# Altium schematic symbol library WR-PHD_Socket Header_2.54mm.SchLib: 187 symbols (part 3 of 4)
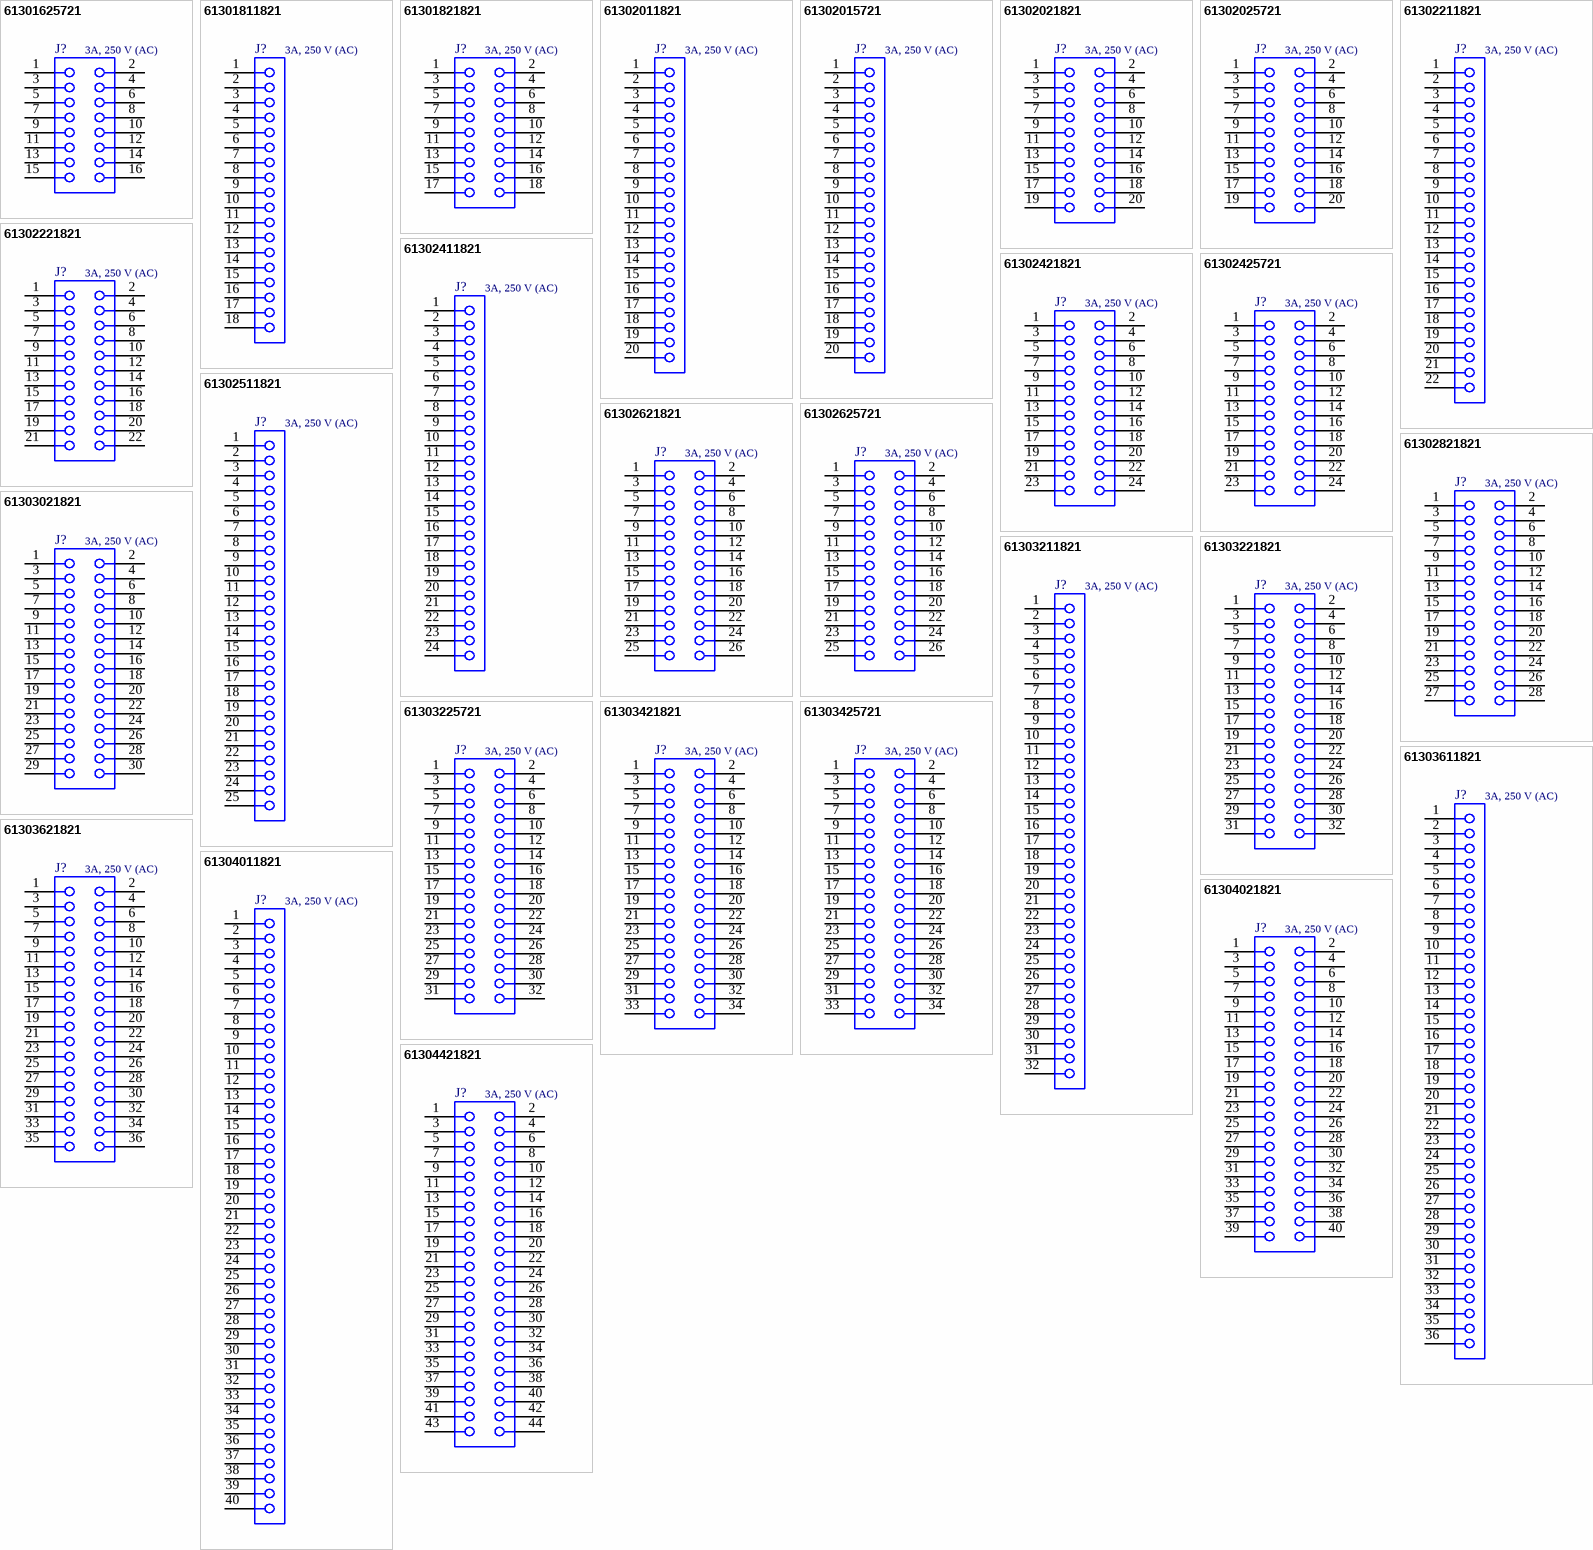
[diagram p7: symbols 61301625721 to 61304421821]

## 61303211821
designator J?, comment 3A, 250 V (AC)
WR-PHD Socket Header, THT, pitch 2.54mm, Single Row, Vertical, 32p; Manufacturer Part Number: 61303211821; Manufacturer: Wurth Elektronik; Pin Number: 32; Working Voltage: 250VAC; Withstanding Voltage: 500VAC; Contact Resistance: 20mOhm; ComponentLink1Description: Datasheet; ComponentLink1URL: https://www.we-online.com/catalog/datasheet/61303211821.pdf; Pitch: 2.54mm; Packaging: Tray; Gender: Socket Header; Rated Current: 3A; Row Number: Single; Orientation: Vertical; Supplier 1 URL: https://www.mouser.vn/ProductDetail/Wurth-Elektronik/61303211821?qs=ZtY9WdtwX55M%2FH%2FSrHZ9xA%3D%3D; Supplier 2 URL: N/A; Supplier 3 URL: N/A; Mount: THT; Operating Temperature Max: + 85 C; Operating Temperature Min: - 25 C; Supplier 1: Mouser; Supplier 1 Part Number: 710-61303211821; Supplier 2: Digi-Key; Supplier 2 Part Number: N/A; Supplier 3: thegioiic; Supplier 3 Part Number: N/A; Value: 3A, 250 V (AC); LCSC Part #: N/A
footprint 61303211821
pins: 1, 2, 3, 4, 5, 6, 7, 8, 9, 10, 11, 12, 13, 14, 15, 16, 17, 18, 19, 20, 21, 22, 23, 24, 25, 26, 27, 28, 29, 30, 31, 32

## 61303221821
designator J?, comment 3A, 250 V (AC)
WR-PHD Socket Header, THT, pitch 2.54mm, Dual Row, Vertical, 32p; Manufacturer Part Number: 61303221821; Manufacturer: Wurth Elektronik; Pin Number: 32; Working Voltage: 250VAC; Withstanding Voltage: 500VAC; Contact Resistance: 20mOhm; ComponentLink1Description: Datasheet; ComponentLink1URL: https://www.we-online.com/catalog/datasheet/61303221821.pdf; Pitch: 2.54mm; Packaging: Tray; Gender: Socket Header; Rated Current: 3A; Row Number: Dual; Orientation: Vertical; Supplier 1 URL: https://www.mouser.vn/ProductDetail/Wurth-Elektronik/61303221821?qs=iLbezkQI%252BsiIokXjqKgYlA%3D%3D; Supplier 2 URL: N/A; Supplier 3 URL: N/A; Mount: THT; Operating Temperature Max: + 85 C; Operating Temperature Min: - 25 C; Supplier 1: Mouser; Supplier 1 Part Number: 710-61303221821; Supplier 2: Digi-Key; Supplier 2 Part Number: N/A; Supplier 3: thegioiic; Supplier 3 Part Number: N/A; Value: 3A, 250 V (AC); LCSC Part #: N/A
footprint 61303221821
pins: 1, 2, 3, 4, 5, 6, 7, 8, 9, 10, 11, 12, 13, 14, 15, 16, 17, 18, 19, 20, 21, 22, 23, 24, 25, 26, 27, 28, 29, 30, 31, 32

## 61303225721
designator J?, comment 3A, 250 V (AC)
WR-PHD Socket Header, THT, pitch 2.54mm, Dual Row, Vertical, 32p; Manufacturer Part Number: 61303225721; Manufacturer: Wurth Elektronik; Pin Number: 32; Working Voltage: 250VAC; Withstanding Voltage: 500VAC; Contact Resistance: 20mOhm; ComponentLink1Description: Datasheet; ComponentLink1URL: https://www.we-online.com/catalog/datasheet/61303225721.pdf; Pitch: 2.54mm; Packaging: Tube; Gender: Socket Header; Rated Current: 3A; Row Number: Dual; Orientation: Vertical; Supplier 1 URL: N/A; Supplier 2 URL: N/A; Supplier 3 URL: N/A; Mount: THT; Operating Temperature Max: + 85 C; Operating Temperature Min: - 25 C; Supplier 1: Mouser; Supplier 1 Part Number: N/A; Supplier 2: Digi-Key; Supplier 2 Part Number: N/A; Supplier 3: thegioiic; Supplier 3 Part Number: N/A; Value: 3A, 250 V (AC); LCSC Part #: N/A
footprint 61303225721
pins: 1, 2, 3, 4, 5, 6, 7, 8, 9, 10, 11, 12, 13, 14, 15, 16, 17, 18, 19, 20, 21, 22, 23, 24, 25, 26, 27, 28, 29, 30, 31, 32

## 61303421821
designator J?, comment 3A, 250 V (AC)
WR-PHD Socket Header, THT, pitch 2.54mm, Dual Row, Vertical, 34p; Manufacturer Part Number: 61303421821; Manufacturer: Wurth Elektronik; Pin Number: 34; Working Voltage: 250VAC; Withstanding Voltage: 500VAC; Contact Resistance: 20mOhm; ComponentLink1Description: Datasheet; ComponentLink1URL: https://www.we-online.com/catalog/datasheet/61303421821.pdf; Pitch: 2.54mm; Packaging: Tray; Gender: Socket Header; Rated Current: 3A; Row Number: Dual; Orientation: Vertical; Supplier 1 URL: N/A; Supplier 2 URL: N/A; Supplier 3 URL: https://www.thegioiic.com/hang-rao-cai-doi-2-54mm-34-chan-2-hang-cao-11-8mm-xuyen-lo; Mount: THT; Operating Temperature Max: + 85 C; Operating Temperature Min: - 25 C; Supplier 1: Mouser; Supplier 1 Part Number: N/A; Supplier 2: Digi-Key; Supplier 2 Part Number: N/A; Supplier 3: thegioiic; Supplier 3 Part Number: N/A; Value: 3A, 250 V (AC); LCSC Part #: N/A
footprint 61303421821
pins: 1, 2, 3, 4, 5, 6, 7, 8, 9, 10, 11, 12, 13, 14, 15, 16, 17, 18, 19, 20, 21, 22, 23, 24, 25, 26, 27, 28, 29, 30, 31, 32, 33, 34

## 61303425721
designator J?, comment 3A, 250 V (AC)
WR-PHD Socket Header, THT, pitch 2.54mm, Dual Row, Vertical, 34p; Manufacturer Part Number: 61303425721; Manufacturer: Wurth Elektronik; Pin Number: 34; Working Voltage: 250VAC; Withstanding Voltage: 500VAC; Contact Resistance: 20mOhm; ComponentLink1Description: Datasheet; ComponentLink1URL: https://www.we-online.com/catalog/datasheet/61303425721.pdf; Pitch: 2.54mm; Packaging: Tube; Gender: Socket Header; Rated Current: 3A; Row Number: Dual; Orientation: Vertical; Supplier 1 URL: N/A; Supplier 2 URL: N/A; Supplier 3 URL: N/A; Mount: THT; Operating Temperature Max: + 85 C; Operating Temperature Min: - 25 C; Supplier 1: Mouser; Supplier 1 Part Number: N/A; Supplier 2: Digi-Key; Supplier 2 Part Number: N/A; Supplier 3: thegioiic; Supplier 3 Part Number: N/A; Value: 3A, 250 V (AC); LCSC Part #: N/A
footprint 61303425721
pins: 1, 2, 3, 4, 5, 6, 7, 8, 9, 10, 11, 12, 13, 14, 15, 16, 17, 18, 19, 20, 21, 22, 23, 24, 25, 26, 27, 28, 29, 30, 31, 32, 33, 34

## 61303611821
designator J?, comment 3A, 250 V (AC)
WR-PHD Socket Header, THT, pitch 2.54mm, Single Row, Vertical, 36p; Manufacturer Part Number: 61303611821; Manufacturer: Wurth Elektronik; Pin Number: 36; Working Voltage: 250VAC; Withstanding Voltage: 500VAC; Contact Resistance: 20mOhm; ComponentLink1Description: Datasheet; ComponentLink1URL: https://www.we-online.com/catalog/datasheet/61303611821.pdf; Pitch: 2.54mm; Packaging: Tray; Gender: Socket Header; Rated Current: 3A; Row Number: Single; Orientation: Vertical; Supplier 1 URL: N/A; Supplier 2 URL: N/A; Supplier 3 URL: N/A; Mount: THT; Operating Temperature Max: + 85 C; Operating Temperature Min: - 25 C; Supplier 1: Mouser; Supplier 1 Part Number: N/A; Supplier 2: Digi-Key; Supplier 2 Part Number: N/A; Supplier 3: thegioiic; Supplier 3 Part Number: N/A; Value: 3A, 250 V (AC); LCSC Part #: N/A
footprint 61303611821
pins: 1, 2, 3, 4, 5, 6, 7, 8, 9, 10, 11, 12, 13, 14, 15, 16, 17, 18, 19, 20, 21, 22, 23, 24, 25, 26, 27, 28, 29, 30, 31, 32, 33, 34, 35, 36

## 61303621821
designator J?, comment 3A, 250 V (AC)
WR-PHD Socket Header, THT, pitch 2.54mm, Dual Row, Vertical, 36p; Manufacturer Part Number: 61303621821; Manufacturer: Wurth Elektronik; Pin Number: 36; Working Voltage: 250VAC; Withstanding Voltage: 500VAC; Contact Resistance: 20mOhm; ComponentLink1Description: Datasheet; ComponentLink1URL: https://www.we-online.com/catalog/datasheet/61303621821.pdf; Pitch: 2.54mm; Packaging: Tray; Gender: Socket Header; Rated Current: 3A; Row Number: Dual; Orientation: Vertical; Supplier 1 URL: N/A; Supplier 2 URL: N/A; Supplier 3 URL: https://www.thegioiic.com/hang-rao-cai-doi-2-54mm-36-chan-2-hang-cao-11-8mm-xuyen-lo; Mount: THT; Operating Temperature Max: + 85 C; Operating Temperature Min: - 25 C; Supplier 1: Mouser; Supplier 1 Part Number: N/A; Supplier 2: Digi-Key; Supplier 2 Part Number: N/A; Supplier 3: thegioiic; Supplier 3 Part Number: N/A; Value: 3A, 250 V (AC); LCSC Part #: N/A
footprint 61303621821
pins: 1, 2, 3, 4, 5, 6, 7, 8, 9, 10, 11, 12, 13, 14, 15, 16, 17, 18, 19, 20, 21, 22, 23, 24, 25, 26, 27, 28, 29, 30, 31, 32, 33, 34, 35, 36

## 61304011821
designator J?, comment 3A, 250 V (AC)
WR-PHD Socket Header, THT, pitch 2.54mm, Single Row, Vertical, 40p; Manufacturer Part Number: 61304011821; Manufacturer: Wurth Elektronik; Pin Number: 40; Working Voltage: 250VAC; Withstanding Voltage: 500VAC; Contact Resistance: 20mOhm; ComponentLink1Description: Datasheet; ComponentLink1URL: https://www.we-online.com/catalog/datasheet/61304011821.pdf; Pitch: 2.54mm; Packaging: Tray; Gender: Socket Header; Rated Current: 3A; Row Number: Single; Orientation: Vertical; Supplier 1 URL: https://www.mouser.vn/ProductDetail/Wurth-Elektronik/61304011821?qs=ulEaXIWI0c%2FUKLXoUP0iyA%3D%3D; Supplier 2 URL: N/A; Supplier 3 URL: N/A; Mount: THT; Operating Temperature Max: + 85 C; Operating Temperature Min: - 25 C; Supplier 1: Mouser; Supplier 1 Part Number: 710-61304011821; Supplier 2: Digi-Key; Supplier 2 Part Number: N/A; Supplier 3: thegioiic; Supplier 3 Part Number: N/A; Value: 3A, 250 V (AC); LCSC Part #: N/A
footprint 61304011821
pins: 1, 2, 3, 4, 5, 6, 7, 8, 9, 10, 11, 12, 13, 14, 15, 16, 17, 18, 19, 20, 21, 22, 23, 24, 25, 26, 27, 28, 29, 30, 31, 32, 33, 34, 35, 36, 37, 38, 39, 40

## 61304021821
designator J?, comment 3A, 250 V (AC)
WR-PHD Socket Header, THT, pitch 2.54mm, Dual Row, Vertical, 40p; Manufacturer Part Number: 61304021821; Manufacturer: Wurth Elektronik; Pin Number: 40; Working Voltage: 250VAC; Withstanding Voltage: 500VAC; Contact Resistance: 20mOhm; ComponentLink1Description: Datasheet; ComponentLink1URL: https://www.we-online.com/catalog/datasheet/61304021821.pdf; Pitch: 2.54mm; Packaging: Tray; Gender: Socket Header; Rated Current: 3A; Row Number: Dual; Orientation: Vertical; Supplier 1 URL: https://www.mouser.vn/ProductDetail/Wurth-Elektronik/61304021821?qs=bZr6mbWTK5mzEvTTGhcEyQ%3D%3D; Supplier 2 URL: N/A; Supplier 3 URL: N/A; Mount: THT; Operating Temperature Max: + 85 C; Operating Temperature Min: - 25 C; Supplier 1: Mouser; Supplier 1 Part Number: 710-61304021821; Supplier 2: Digi-Key; Supplier 2 Part Number: N/A; Supplier 3: thegioiic; Supplier 3 Part Number: N/A; Value: 3A, 250 V (AC); LCSC Part #: N/A
footprint 61304021821
pins: 1, 2, 3, 4, 5, 6, 7, 8, 9, 10, 11, 12, 13, 14, 15, 16, 17, 18, 19, 20, 21, 22, 23, 24, 25, 26, 27, 28, 29, 30, 31, 32, 33, 34, 35, 36, 37, 38, 39, 40

## 61304421821
designator J?, comment 3A, 250 V (AC)
WR-PHD Socket Header, THT, pitch 2.54mm, Dual Row, Vertical, 44p; Manufacturer Part Number: 61304421821; Manufacturer: Wurth Elektronik; Pin Number: 44; Working Voltage: 250VAC; Withstanding Voltage: 500VAC; Contact Resistance: 20mOhm; ComponentLink1Description: Datasheet; ComponentLink1URL: https://www.we-online.com/catalog/datasheet/61304421821.pdf; Pitch: 2.54mm; Packaging: Tray; Gender: Socket Header; Rated Current: 3A; Row Number: Dual; Orientation: Vertical; Supplier 1 URL: N/A; Supplier 2 URL: N/A; Supplier 3 URL: N/A; Mount: THT; Operating Temperature Max: + 85 C; Operating Temperature Min: - 25 C; Supplier 1: Mouser; Supplier 1 Part Number: N/A; Supplier 2: Digi-Key; Supplier 2 Part Number: N/A; Supplier 3: thegioiic; Supplier 3 Part Number: N/A; Value: 3A, 250 V (AC); LCSC Part #: N/A
footprint 61304421821
pins: 1, 2, 3, 4, 5, 6, 7, 8, 9, 10, 11, 12, 13, 14, 15, 16, 17, 18, 19, 20, 21, 22, 23, 24, 25, 26, 27, 28, 29, 30, 31, 32, 33, 34, 35, 36, 37, 38, 39, 40, 41, 42, 43, 44

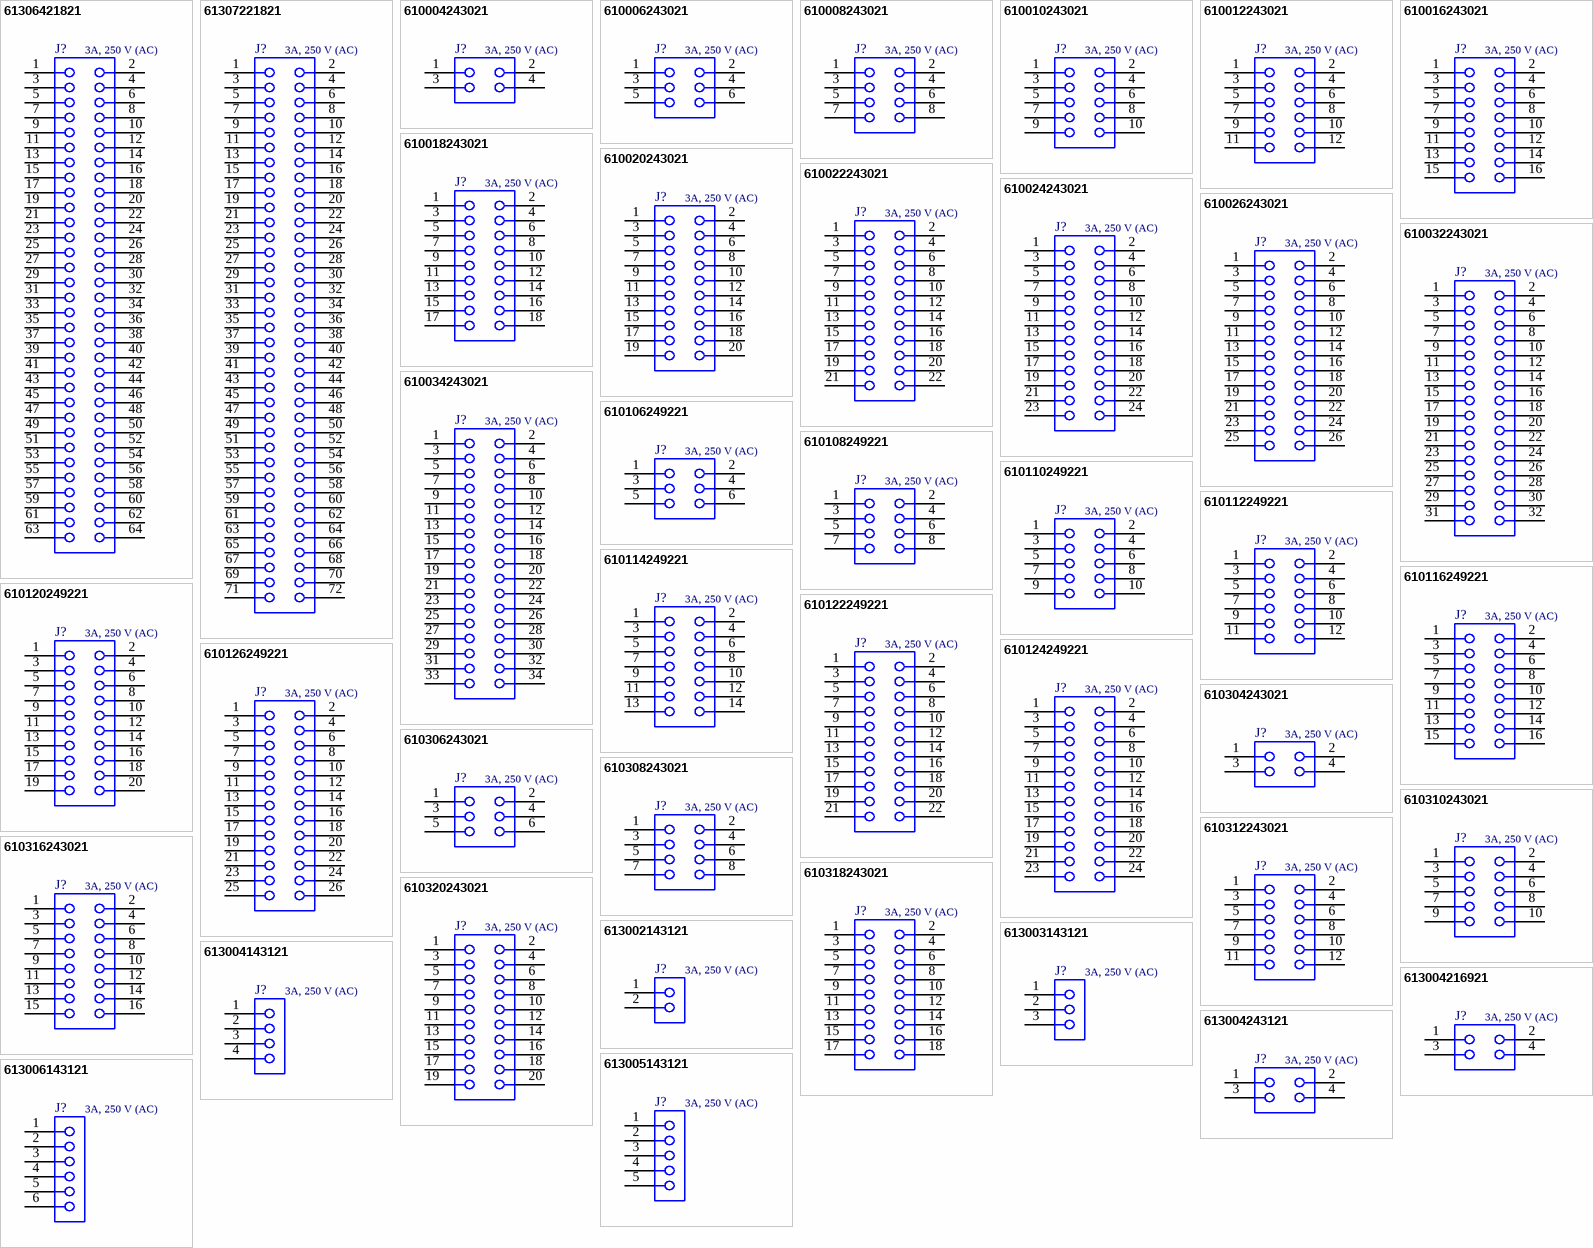
[diagram p3: symbols 61306421821 to 613006143121]

## 61306421821
designator J?, comment 3A, 250 V (AC)
WR-PHD Socket Header, THT, pitch 2.54mm, Dual Row, Vertical, 64p; Manufacturer Part Number: 61306421821; Manufacturer: Wurth Elektronik; Pin Number: 64; Working Voltage: 250VAC; Withstanding Voltage: 500VAC; Contact Resistance: 20mOhm; ComponentLink1Description: Datasheet; ComponentLink1URL: https://www.we-online.com/catalog/datasheet/61306421821.pdf; Pitch: 2.54mm; Packaging: Tray; Gender: Socket Header; Rated Current: 3A; Row Number: Dual; Orientation: Vertical; Supplier 1 URL: https://www.mouser.vn/ProductDetail/Wurth-Elektronik/61306421821?qs=ZtY9WdtwX573N3RQZ7RdeQ%3D%3D; Supplier 2 URL: N/A; Supplier 3 URL: N/A; Mount: THT; Operating Temperature Max: + 85 C; Operating Temperature Min: - 25 C; Supplier 1: Mouser; Supplier 1 Part Number: 710-61306421821; Supplier 2: Digi-Key; Supplier 2 Part Number: N/A; Supplier 3: thegioiic; Supplier 3 Part Number: N/A; Value: 3A, 250 V (AC); LCSC Part #: N/A
footprint 61306421821
pins: 1, 2, 3, 4, 5, 6, 7, 8, 9, 10, 11, 12, 13, 14, 15, 16, 17, 18, 19, 20, 21, 22, 23, 24, 25, 26, 27, 28, 29, 30, 31, 32, 33, 34, 35, 36, 37, 38, 39, 40, 41, 42, 43, 44, 45, 46, 47, 48, 49, 50, 51, 52, 53, 54, 55, 56, 57, 58, 59, 60, 61, 62, 63, 64

## 61307221821
designator J?, comment 3A, 250 V (AC)
WR-PHD Socket Header, THT, pitch 2.54mm, Dual Row, Vertical, 72p; Manufacturer Part Number: 61307221821; Manufacturer: Wurth Elektronik; Pin Number: 72; Working Voltage: 250VAC; Withstanding Voltage: 500VAC; Contact Resistance: 20mOhm; ComponentLink1Description: Datasheet; ComponentLink1URL: https://www.we-online.com/catalog/datasheet/61307221821.pdf; Pitch: 2.54mm; Packaging: Tray; Gender: Socket Header; Rated Current: 3A; Row Number: Dual; Orientation: Vertical; Supplier 1 URL: N/A; Supplier 2 URL: N/A; Supplier 3 URL: N/A; Mount: THT; Operating Temperature Max: + 85 C; Operating Temperature Min: - 25 C; Supplier 1: Mouser; Supplier 1 Part Number: N/A; Supplier 2: Digi-Key; Supplier 2 Part Number: N/A; Supplier 3: thegioiic; Supplier 3 Part Number: N/A; Value: 3A, 250 V (AC); LCSC Part #: N/A
footprint 61307221821
pins: 1, 2, 3, 4, 5, 6, 7, 8, 9, 10, 11, 12, 13, 14, 15, 16, 17, 18, 19, 20, 21, 22, 23, 24, 25, 26, 27, 28, 29, 30, 31, 32, 33, 34, 35, 36, 37, 38, 39, 40, 41, 42, 43, 44, 45, 46, 47, 48, 49, 50, 51, 52, 53, 54, 55, 56, 57, 58, 59, 60, 61, 62, 63, 64, 65, 66, 67, 68, 69, 70, 71, 72

## 610004243021
designator J?, comment 3A, 250 V (AC)
WR-PHD Socket Header, SMT, pitch 2.54mm, Dual Row, Vertical, 4p; Manufacturer Part Number: 610004243021; Manufacturer: Wurth Elektronik; Pin Number: 4; Working Voltage: 250VAC; Withstanding Voltage: 500VAC; Contact Resistance: 20mOhm; ComponentLink1Description: Datasheet; ComponentLink1URL: https://www.we-online.com/catalog/datasheet/610004243021.pdf; Pitch: 2.54mm; Packaging: Tube; Gender: Socket Header; Rated Current: 3A; Row Number: Dual; Orientation: Vertical; Supplier 1 URL: N/A; Supplier 2 URL: N/A; Supplier 3 URL: N/A; Mount: SMD/SMT; Operating Temperature Max: + 85 C; Operating Temperature Min: - 25 C; Supplier 1: Mouser; Supplier 1 Part Number: N/A; Supplier 2: Digi-Key; Supplier 2 Part Number: N/A; Supplier 3: thegioiic; Supplier 3 Part Number: N/A; Value: 3A, 250 V (AC); LCSC Part #: N/A
footprint 610004243021
pins: 1, 2, 3, 4

## 610006243021
designator J?, comment 3A, 250 V (AC)
WR-PHD Socket Header, SMT, pitch 2.54mm, Dual Row, Vertical, 6p; Manufacturer Part Number: 610006243021; Manufacturer: Wurth Elektronik; Pin Number: 6; Working Voltage: 250VAC; Withstanding Voltage: 500VAC; Contact Resistance: 20mOhm; ComponentLink1Description: Datasheet; ComponentLink1URL: https://www.we-online.com/catalog/datasheet/610006243021.pdf; Pitch: 2.54mm; Packaging: Tube; Gender: Socket Header; Rated Current: 3A; Row Number: Dual; Orientation: Vertical; Supplier 1 URL: N/A; Supplier 2 URL: N/A; Supplier 3 URL: N/A; Mount: SMD/SMT; Operating Temperature Max: + 85 C; Operating Temperature Min: - 25 C; Supplier 1: Mouser; Supplier 1 Part Number: N/A; Supplier 2: Digi-Key; Supplier 2 Part Number: N/A; Supplier 3: thegioiic; Supplier 3 Part Number: N/A; Value: 3A, 250 V (AC); LCSC Part #: N/A
footprint 610006243021
pins: 1, 2, 3, 4, 5, 6

## 610008243021
designator J?, comment 3A, 250 V (AC)
WR-PHD Socket Header, SMT, pitch 2.54mm, Dual Row, Vertical, 8p; Manufacturer Part Number: 610008243021; Manufacturer: Wurth Elektronik; Pin Number: 8; Working Voltage: 250VAC; Withstanding Voltage: 500VAC; Contact Resistance: 20mOhm; ComponentLink1Description: Datasheet; ComponentLink1URL: https://www.we-online.com/catalog/datasheet/610008243021.pdf; Pitch: 2.54mm; Packaging: Tube; Gender: Socket Header; Rated Current: 3A; Row Number: Dual; Orientation: Vertical; Supplier 1 URL: N/A; Supplier 2 URL: N/A; Supplier 3 URL: N/A; Mount: SMD/SMT; Operating Temperature Max: + 85 C; Operating Temperature Min: - 25 C; Supplier 1: Mouser; Supplier 1 Part Number: N/A; Supplier 2: Digi-Key; Supplier 2 Part Number: N/A; Supplier 3: thegioiic; Supplier 3 Part Number: N/A; Value: 3A, 250 V (AC); LCSC Part #: N/A
footprint 610008243021
pins: 1, 2, 3, 4, 5, 6, 7, 8

## 610010243021
designator J?, comment 3A, 250 V (AC)
WR-PHD Socket Header, SMT, pitch 2.54mm, Dual Row, Vertical, 10p; Manufacturer Part Number: 610010243021; Manufacturer: Wurth Elektronik; Pin Number: 10; Working Voltage: 250VAC; Withstanding Voltage: 500VAC; Contact Resistance: 20mOhm; ComponentLink1Description: Datasheet; ComponentLink1URL: https://www.we-online.com/catalog/datasheet/610010243021.pdf; Pitch: 2.54mm; Packaging: Tube; Gender: Socket Header; Rated Current: 3A; Row Number: Dual; Orientation: Vertical; Supplier 1 URL: N/A; Supplier 2 URL: N/A; Supplier 3 URL: N/A; Mount: SMD/SMT; Operating Temperature Max: + 85 C; Operating Temperature Min: - 25 C; Supplier 1: Mouser; Supplier 1 Part Number: N/A; Supplier 2: Digi-Key; Supplier 2 Part Number: N/A; Supplier 3: thegioiic; Supplier 3 Part Number: N/A; Value: 3A, 250 V (AC); LCSC Part #: N/A
footprint 610010243021
pins: 1, 2, 3, 4, 5, 6, 7, 8, 9, 10

## 610012243021
designator J?, comment 3A, 250 V (AC)
WR-PHD Socket Header, SMT, pitch 2.54mm, Dual Row, Vertical, 12p; Manufacturer Part Number: 610012243021; Manufacturer: Wurth Elektronik; Pin Number: 12; Working Voltage: 250VAC; Withstanding Voltage: 500VAC; Contact Resistance: 20mOhm; ComponentLink1Description: Datasheet; ComponentLink1URL: https://www.we-online.com/catalog/datasheet/610012243021.pdf; Pitch: 2.54mm; Packaging: Tube; Gender: Socket Header; Rated Current: 3A; Row Number: Dual; Orientation: Vertical; Supplier 1 URL: N/A; Supplier 2 URL: N/A; Supplier 3 URL: N/A; Mount: SMD/SMT; Operating Temperature Max: + 85 C; Operating Temperature Min: - 25 C; Supplier 1: Mouser; Supplier 1 Part Number: N/A; Supplier 2: Digi-Key; Supplier 2 Part Number: N/A; Supplier 3: thegioiic; Supplier 3 Part Number: N/A; Value: 3A, 250 V (AC); LCSC Part #: N/A
footprint 610012243021
pins: 1, 2, 3, 4, 5, 6, 7, 8, 9, 10, 11, 12

## 610016243021
designator J?, comment 3A, 250 V (AC)
WR-PHD Socket Header, SMT, pitch 2.54mm, Dual Row, Vertical, 16p; Manufacturer Part Number: 610016243021; Manufacturer: Wurth Elektronik; Pin Number: 16; Working Voltage: 250VAC; Withstanding Voltage: 500VAC; Contact Resistance: 20mOhm; ComponentLink1Description: Datasheet; ComponentLink1URL: https://www.we-online.com/catalog/datasheet/610016243021.pdf; Pitch: 2.54mm; Packaging: Tube; Gender: Socket Header; Rated Current: 3A; Row Number: Dual; Orientation: Vertical; Supplier 1 URL: N/A; Supplier 2 URL: N/A; Supplier 3 URL: N/A; Mount: SMD/SMT; Operating Temperature Max: + 85 C; Operating Temperature Min: - 25 C; Supplier 1: Mouser; Supplier 1 Part Number: N/A; Supplier 2: Digi-Key; Supplier 2 Part Number: N/A; Supplier 3: thegioiic; Supplier 3 Part Number: N/A; Value: 3A, 250 V (AC); LCSC Part #: N/A
footprint 610016243021
pins: 1, 2, 3, 4, 5, 6, 7, 8, 9, 10, 11, 12, 13, 14, 15, 16

## 610018243021
designator J?, comment 3A, 250 V (AC)
WR-PHD Socket Header, SMT, pitch 2.54mm, Dual Row, Vertical, 18p; Manufacturer Part Number: 610018243021; Manufacturer: Wurth Elektronik; Pin Number: 18; Working Voltage: 250VAC; Withstanding Voltage: 500VAC; Contact Resistance: 20mOhm; ComponentLink1Description: Datasheet; ComponentLink1URL: https://www.we-online.com/catalog/datasheet/610018243021.pdf; Pitch: 2.54mm; Packaging: Tube; Gender: Socket Header; Rated Current: 3A; Row Number: Dual; Orientation: Vertical; Supplier 1 URL: N/A; Supplier 2 URL: N/A; Supplier 3 URL: N/A; Mount: SMD/SMT; Operating Temperature Max: + 85 C; Operating Temperature Min: - 25 C; Supplier 1: Mouser; Supplier 1 Part Number: N/A; Supplier 2: Digi-Key; Supplier 2 Part Number: N/A; Supplier 3: thegioiic; Supplier 3 Part Number: N/A; Value: 3A, 250 V (AC); LCSC Part #: N/A
footprint 610018243021
pins: 1, 2, 3, 4, 5, 6, 7, 8, 9, 10, 11, 12, 13, 14, 15, 16, 17, 18

## 610020243021
designator J?, comment 3A, 250 V (AC)
WR-PHD Socket Header, SMT, pitch 2.54mm, Dual Row, Vertical, 20p; Manufacturer Part Number: 610020243021; Manufacturer: Wurth Elektronik; Pin Number: 20; Working Voltage: 250VAC; Withstanding Voltage: 500VAC; Contact Resistance: 20mOhm; ComponentLink1Description: Datasheet; ComponentLink1URL: https://www.we-online.com/catalog/datasheet/610020243021.pdf; Pitch: 2.54mm; Packaging: Tube; Gender: Socket Header; Rated Current: 3A; Row Number: Dual; Orientation: Vertical; Supplier 1 URL: N/A; Supplier 2 URL: N/A; Supplier 3 URL: N/A; Mount: SMD/SMT; Operating Temperature Max: + 85 C; Operating Temperature Min: - 25 C; Supplier 1: Mouser; Supplier 1 Part Number: N/A; Supplier 2: Digi-Key; Supplier 2 Part Number: N/A; Supplier 3: thegioiic; Supplier 3 Part Number: N/A; Value: 3A, 250 V (AC); LCSC Part #: N/A
footprint 610020243021
pins: 1, 2, 3, 4, 5, 6, 7, 8, 9, 10, 11, 12, 13, 14, 15, 16, 17, 18, 19, 20

## 610022243021
designator J?, comment 3A, 250 V (AC)
WR-PHD Socket Header, SMT, pitch 2.54mm, Dual Row, Vertical, 22p; Manufacturer Part Number: 610022243021; Manufacturer: Wurth Elektronik; Pin Number: 22; Working Voltage: 250VAC; Withstanding Voltage: 500VAC; Contact Resistance: 20mOhm; ComponentLink1Description: Datasheet; ComponentLink1URL: https://www.we-online.com/catalog/datasheet/610022243021.pdf; Pitch: 2.54mm; Packaging: Tube; Gender: Socket Header; Rated Current: 3A; Row Number: Dual; Orientation: Vertical; Supplier 1 URL: N/A; Supplier 2 URL: N/A; Supplier 3 URL: N/A; Mount: SMD/SMT; Operating Temperature Max: + 85 C; Operating Temperature Min: - 25 C; Supplier 1: Mouser; Supplier 1 Part Number: N/A; Supplier 2: Digi-Key; Supplier 2 Part Number: N/A; Supplier 3: thegioiic; Supplier 3 Part Number: N/A; Value: 3A, 250 V (AC); LCSC Part #: N/A
footprint 610022243021
pins: 1, 2, 3, 4, 5, 6, 7, 8, 9, 10, 11, 12, 13, 14, 15, 16, 17, 18, 19, 20, 21, 22

## 610024243021
designator J?, comment 3A, 250 V (AC)
WR-PHD Socket Header, SMT, pitch 2.54mm, Dual Row, Vertical, 24p; Manufacturer Part Number: 610024243021; Manufacturer: Wurth Elektronik; Pin Number: 24; Working Voltage: 250VAC; Withstanding Voltage: 500VAC; Contact Resistance: 20mOhm; ComponentLink1Description: Datasheet; ComponentLink1URL: https://www.we-online.com/catalog/datasheet/610024243021.pdf; Pitch: 2.54mm; Packaging: Tube; Gender: Socket Header; Rated Current: 3A; Row Number: Dual; Orientation: Vertical; Supplier 1 URL: N/A; Supplier 2 URL: N/A; Supplier 3 URL: N/A; Mount: SMD/SMT; Operating Temperature Max: + 85 C; Operating Temperature Min: - 25 C; Supplier 1: Mouser; Supplier 1 Part Number: N/A; Supplier 2: Digi-Key; Supplier 2 Part Number: N/A; Supplier 3: thegioiic; Supplier 3 Part Number: N/A; Value: 3A, 250 V (AC); LCSC Part #: N/A
footprint 610024243021
pins: 1, 2, 3, 4, 5, 6, 7, 8, 9, 10, 11, 12, 13, 14, 15, 16, 17, 18, 19, 20, 21, 22, 23, 24

## 610026243021
designator J?, comment 3A, 250 V (AC)
WR-PHD Socket Header, SMT, pitch 2.54mm, Dual Row, Vertical, 26p; Manufacturer Part Number: 610026243021; Manufacturer: Wurth Elektronik; Pin Number: 26; Working Voltage: 250VAC; Withstanding Voltage: 500VAC; Contact Resistance: 20mOhm; ComponentLink1Description: Datasheet; ComponentLink1URL: https://www.we-online.com/catalog/datasheet/610026243021.pdf; Pitch: 2.54mm; Packaging: Tube; Gender: Socket Header; Rated Current: 3A; Row Number: Dual; Orientation: Vertical; Supplier 1 URL: N/A; Supplier 2 URL: N/A; Supplier 3 URL: N/A; Mount: SMD/SMT; Operating Temperature Max: + 85 C; Operating Temperature Min: - 25 C; Supplier 1: Mouser; Supplier 1 Part Number: N/A; Supplier 2: Digi-Key; Supplier 2 Part Number: N/A; Supplier 3: thegioiic; Supplier 3 Part Number: N/A; Value: 3A, 250 V (AC); LCSC Part #: N/A
footprint 610026243021
pins: 1, 2, 3, 4, 5, 6, 7, 8, 9, 10, 11, 12, 13, 14, 15, 16, 17, 18, 19, 20, 21, 22, 23, 24, 25, 26

## 610032243021
designator J?, comment 3A, 250 V (AC)
WR-PHD Socket Header, SMT, pitch 2.54mm, Dual Row, Vertical, 32p; Manufacturer Part Number: 610032243021; Manufacturer: Wurth Elektronik; Pin Number: 32; Working Voltage: 250VAC; Withstanding Voltage: 500VAC; Contact Resistance: 20mOhm; ComponentLink1Description: Datasheet; ComponentLink1URL: https://www.we-online.com/catalog/datasheet/610032243021.pdf; Pitch: 2.54mm; Packaging: Tube; Gender: Socket Header; Rated Current: 3A; Row Number: Dual; Orientation: Vertical; Supplier 1 URL: N/A; Supplier 2 URL: N/A; Supplier 3 URL: N/A; Mount: SMD/SMT; Operating Temperature Max: + 85 C; Operating Temperature Min: - 25 C; Supplier 1: Mouser; Supplier 1 Part Number: N/A; Supplier 2: Digi-Key; Supplier 2 Part Number: N/A; Supplier 3: thegioiic; Supplier 3 Part Number: N/A; Value: 3A, 250 V (AC); LCSC Part #: N/A
footprint 610032243021
pins: 1, 2, 3, 4, 5, 6, 7, 8, 9, 10, 11, 12, 13, 14, 15, 16, 17, 18, 19, 20, 21, 22, 23, 24, 25, 26, 27, 28, 29, 30, 31, 32

## 610034243021
designator J?, comment 3A, 250 V (AC)
WR-PHD Socket Header, SMT, pitch 2.54mm, Dual Row, Vertical, 34p; Manufacturer Part Number: 610034243021; Manufacturer: Wurth Elektronik; Pin Number: 34; Working Voltage: 250VAC; Withstanding Voltage: 500VAC; Contact Resistance: 20mOhm; ComponentLink1Description: Datasheet; ComponentLink1URL: https://www.we-online.com/catalog/datasheet/610034243021.pdf; Pitch: 2.54mm; Packaging: Tube; Gender: Socket Header; Rated Current: 3A; Row Number: Dual; Orientation: Vertical; Supplier 1 URL: N/A; Supplier 2 URL: N/A; Supplier 3 URL: N/A; Mount: SMD/SMT; Operating Temperature Max: + 85 C; Operating Temperature Min: - 25 C; Supplier 1: Mouser; Supplier 1 Part Number: N/A; Supplier 2: Digi-Key; Supplier 2 Part Number: N/A; Supplier 3: thegioiic; Supplier 3 Part Number: N/A; Value: 3A, 250 V (AC); LCSC Part #: N/A
footprint 610034243021
pins: 1, 2, 3, 4, 5, 6, 7, 8, 9, 10, 11, 12, 13, 14, 15, 16, 17, 18, 19, 20, 21, 22, 23, 24, 25, 26, 27, 28, 29, 30, 31, 32, 33, 34

## 610106249221
designator J?, comment 3A, 250 V (AC)
WR-PHD Socket Header, SMT, pitch 2.54mm, Dual Row, Angled, 6p; Manufacturer Part Number: 610106249221; Manufacturer: Wurth Elektronik; Pin Number: 6; Working Voltage: 250VAC; Withstanding Voltage: 600VAC; Contact Resistance: 20mOhm; ComponentLink1Description: Datasheet; ComponentLink1URL: https://www.we-online.com/catalog/datasheet/610106249221.pdf; Pitch: 2.54mm; Packaging: Tape and Reel; Gender: Socket Header; Rated Current: 3A; Row Number: Dual; Orientation: Angled; Supplier 1 URL: https://www.mouser.vn/ProductDetail/Wurth-Elektronik/610106249221?qs=a9WhcLg8qCz8%252BirA0mKOHw%3D%3D; Supplier 2 URL: N/A; Supplier 3 URL: N/A; Mount: SMD/SMT; Operating Temperature Max: + 85 C; Operating Temperature Min: - 25 C; Supplier 1: Mouser; Supplier 1 Part Number: 710-610106249221; Supplier 2: Digi-Key; Supplier 2 Part Number: N/A; Supplier 3: thegioiic; Supplier 3 Part Number: N/A; Value: 3A, 250 V (AC); LCSC Part #: N/A
footprint 610106249221
pins: 1, 2, 3, 4, 5, 6

## 610108249221
designator J?, comment 3A, 250 V (AC)
WR-PHD Socket Header, SMT, pitch 2.54mm, Dual Row, Angled, 8p; Manufacturer Part Number: 610108249221; Manufacturer: Wurth Elektronik; Pin Number: 8; Working Voltage: 250VAC; Withstanding Voltage: 600VAC; Contact Resistance: 20mOhm; ComponentLink1Description: Datasheet; ComponentLink1URL: https://www.we-online.com/catalog/datasheet/610108249221.pdf; Pitch: 2.54mm; Packaging: Tape and Reel; Gender: Socket Header; Rated Current: 3A; Row Number: Dual; Orientation: Angled; Supplier 1 URL: https://www.mouser.vn/ProductDetail/Wurth-Elektronik/610108249221?qs=a9WhcLg8qCz15Pj3mmPd4A%3D%3D; Supplier 2 URL: N/A; Supplier 3 URL: https://www.thegioiic.com/hang-rao-cai-doi-2-54mm-8-chan-dan-smd-nam-ngang; Mount: SMD/SMT; Operating Temperature Max: + 85 C; Operating Temperature Min: - 25 C; Supplier 1: Mouser; Supplier 1 Part Number: 710-610108249221; Supplier 2: Digi-Key; Supplier 2 Part Number: N/A; Supplier 3: thegioiic; Supplier 3 Part Number: N/A; Value: 3A, 250 V (AC); LCSC Part #: N/A
footprint 610108249221
pins: 1, 2, 3, 4, 5, 6, 7, 8

## 610110249221
designator J?, comment 3A, 250 V (AC)
WR-PHD Socket Header, SMT, pitch 2.54mm, Dual Row, Angled, 10p; Manufacturer Part Number: 610110249221; Manufacturer: Wurth Elektronik; Pin Number: 10; Working Voltage: 250VAC; Withstanding Voltage: 600VAC; Contact Resistance: 20mOhm; ComponentLink1Description: Datasheet; ComponentLink1URL: https://www.we-online.com/catalog/datasheet/610110249221.pdf; Pitch: 2.54mm; Packaging: Tape and Reel; Gender: Socket Header; Rated Current: 3A; Row Number: Dual; Orientation: Angled; Supplier 1 URL: https://www.mouser.vn/ProductDetail/Wurth-Elektronik/610110249221?qs=a9WhcLg8qCwehLVyYBCd0g%3D%3D; Supplier 2 URL: N/A; Supplier 3 URL: https://www.thegioiic.com/hang-rao-cai-doi-2-54mm-10-chan-dan-smd-nam-ngang; Mount: SMD/SMT; Operating Temperature Max: + 85 C; Operating Temperature Min: - 25 C; Supplier 1: Mouser; Supplier 1 Part Number: 710-610110249221; Supplier 2: Digi-Key; Supplier 2 Part Number: N/A; Supplier 3: thegioiic; Supplier 3 Part Number: N/A; Value: 3A, 250 V (AC); LCSC Part #: N/A
footprint 610110249221
pins: 1, 2, 3, 4, 5, 6, 7, 8, 9, 10

## 610112249221
designator J?, comment 3A, 250 V (AC)
WR-PHD Socket Header, SMT, pitch 2.54mm, Dual Row, Angled, 12p; Manufacturer Part Number: 610112249221; Manufacturer: Wurth Elektronik; Pin Number: 12; Working Voltage: 250VAC; Withstanding Voltage: 600VAC; Contact Resistance: 20mOhm; ComponentLink1Description: Datasheet; ComponentLink1URL: https://www.we-online.com/catalog/datasheet/610112249221.pdf; Pitch: 2.54mm; Packaging: Tape and Reel; Gender: Socket Header; Rated Current: 3A; Row Number: Dual; Orientation: Angled; Supplier 1 URL: https://www.mouser.vn/ProductDetail/Wurth-Elektronik/610112249221?qs=a9WhcLg8qCwIYgiARoRlsA%3D%3D; Supplier 2 URL: N/A; Supplier 3 URL: N/A; Mount: SMD/SMT; Operating Temperature Max: + 85 C; Operating Temperature Min: - 25 C; Supplier 1: Mouser; Supplier 1 Part Number: 710-610112249221; Supplier 2: Digi-Key; Supplier 2 Part Number: N/A; Supplier 3: thegioiic; Supplier 3 Part Number: N/A; Value: 3A, 250 V (AC); LCSC Part #: N/A
footprint 610112249221
pins: 1, 2, 3, 4, 5, 6, 7, 8, 9, 10, 11, 12

## 610114249221
designator J?, comment 3A, 250 V (AC)
WR-PHD Socket Header, SMT, pitch 2.54mm, Dual Row, Angled, 14p; Manufacturer Part Number: 610114249221; Manufacturer: Wurth Elektronik; Pin Number: 14; Working Voltage: 250VAC; Withstanding Voltage: 600VAC; Contact Resistance: 20mOhm; ComponentLink1Description: Datasheet; ComponentLink1URL: https://www.we-online.com/catalog/datasheet/610114249221.pdf; Pitch: 2.54mm; Packaging: Tape and Reel; Gender: Socket Header; Rated Current: 3A; Row Number: Dual; Orientation: Angled; Supplier 1 URL: https://www.mouser.vn/ProductDetail/Wurth-Elektronik/610114249221?qs=a9WhcLg8qCy7rHzndkuY3A%3D%3D; Supplier 2 URL: N/A; Supplier 3 URL: https://www.thegioiic.com/hang-rao-cai-doi-2-54mm-14-chan-dan-smd-nam-ngang; Mount: SMD/SMT; Operating Temperature Max: + 85 C; Operating Temperature Min: - 25 C; Supplier 1: Mouser; Supplier 1 Part Number: 710-610114249221; Supplier 2: Digi-Key; Supplier 2 Part Number: N/A; Supplier 3: thegioiic; Supplier 3 Part Number: N/A; Value: 3A, 250 V (AC); LCSC Part #: N/A
footprint 610114249221
pins: 1, 2, 3, 4, 5, 6, 7, 8, 9, 10, 11, 12, 13, 14

## 610116249221
designator J?, comment 3A, 250 V (AC)
WR-PHD Socket Header, SMT, pitch 2.54mm, Dual Row, Angled, 16p; Manufacturer Part Number: 610116249221; Manufacturer: Wurth Elektronik; Pin Number: 16; Working Voltage: 250VAC; Withstanding Voltage: 600VAC; Contact Resistance: 20mOhm; ComponentLink1Description: Datasheet; ComponentLink1URL: https://www.we-online.com/catalog/datasheet/610116249221.pdf; Pitch: 2.54mm; Packaging: Tape and Reel; Gender: Socket Header; Rated Current: 3A; Row Number: Dual; Orientation: Angled; Supplier 1 URL: https://www.mouser.vn/ProductDetail/Wurth-Elektronik/610116249221?qs=a9WhcLg8qCyE6n3KSUBELQ%3D%3D; Supplier 2 URL: N/A; Supplier 3 URL: N/A; Mount: SMD/SMT; Operating Temperature Max: + 85 C; Operating Temperature Min: - 25 C; Supplier 1: Mouser; Supplier 1 Part Number: 710-610116249221; Supplier 2: Digi-Key; Supplier 2 Part Number: N/A; Supplier 3: thegioiic; Supplier 3 Part Number: N/A; Value: 3A, 250 V (AC); LCSC Part #: N/A
footprint 610116249221
pins: 1, 2, 3, 4, 5, 6, 7, 8, 9, 10, 11, 12, 13, 14, 15, 16

## 610120249221
designator J?, comment 3A, 250 V (AC)
WR-PHD Socket Header, SMT, pitch 2.54mm, Dual Row, Angled, 20p; Manufacturer Part Number: 610120249221; Manufacturer: Wurth Elektronik; Pin Number: 20; Working Voltage: 250VAC; Withstanding Voltage: 600VAC; Contact Resistance: 20mOhm; ComponentLink1Description: Datasheet; ComponentLink1URL: https://www.we-online.com/catalog/datasheet/610120249221.pdf; Pitch: 2.54mm; Packaging: Tape and Reel; Gender: Socket Header; Rated Current: 3A; Row Number: Dual; Orientation: Angled; Supplier 1 URL: https://www.mouser.vn/ProductDetail/Wurth-Elektronik/610120249221?qs=a9WhcLg8qCyKKFxuqv0ERQ%3D%3D; Supplier 2 URL: N/A; Supplier 3 URL: N/A; Mount: SMD/SMT; Operating Temperature Max: + 85 C; Operating Temperature Min: - 25 C; Supplier 1: Mouser; Supplier 1 Part Number: 710-610120249221; Supplier 2: Digi-Key; Supplier 2 Part Number: N/A; Supplier 3: thegioiic; Supplier 3 Part Number: N/A; Value: 3A, 250 V (AC); LCSC Part #: N/A
footprint 610120249221
pins: 1, 2, 3, 4, 5, 6, 7, 8, 9, 10, 11, 12, 13, 14, 15, 16, 17, 18, 19, 20

## 610122249221
designator J?, comment 3A, 250 V (AC)
WR-PHD Socket Header, SMT, pitch 2.54mm, Dual Row, Angled, 22p; Manufacturer Part Number: 610122249221; Manufacturer: Wurth Elektronik; Pin Number: 22; Working Voltage: 250VAC; Withstanding Voltage: 600VAC; Contact Resistance: 20mOhm; ComponentLink1Description: Datasheet; ComponentLink1URL: https://www.we-online.com/catalog/datasheet/610122249221.pdf; Pitch: 2.54mm; Packaging: Tape and Reel; Gender: Socket Header; Rated Current: 3A; Row Number: Dual; Orientation: Angled; Supplier 1 URL: https://www.mouser.vn/ProductDetail/Wurth-Elektronik/610122249221?qs=a9WhcLg8qCyh81QuX0pqwQ%3D%3D; Supplier 2 URL: N/A; Supplier 3 URL: N/A; Mount: SMD/SMT; Operating Temperature Max: + 85 C; Operating Temperature Min: - 25 C; Supplier 1: Mouser; Supplier 1 Part Number: 710-610122249221; Supplier 2: Digi-Key; Supplier 2 Part Number: N/A; Supplier 3: thegioiic; Supplier 3 Part Number: N/A; Value: 3A, 250 V (AC); LCSC Part #: N/A
footprint 610122249221
pins: 1, 2, 3, 4, 5, 6, 7, 8, 9, 10, 11, 12, 13, 14, 15, 16, 17, 18, 19, 20, 21, 22

## 610124249221
designator J?, comment 3A, 250 V (AC)
WR-PHD Socket Header, SMT, pitch 2.54mm, Dual Row, Angled, 24p; Manufacturer Part Number: 610124249221; Manufacturer: Wurth Elektronik; Pin Number: 24; Working Voltage: 250VAC; Withstanding Voltage: 600VAC; Contact Resistance: 20mOhm; ComponentLink1Description: Datasheet; ComponentLink1URL: https://www.we-online.com/catalog/datasheet/610124249221.pdf; Pitch: 2.54mm; Packaging: Tape and Reel; Gender: Socket Header; Rated Current: 3A; Row Number: Dual; Orientation: Angled; Supplier 1 URL: https://www.mouser.vn/ProductDetail/Wurth-Elektronik/610124249221?qs=a9WhcLg8qCzJyLwvCtxA9Q%3D%3D; Supplier 2 URL: N/A; Supplier 3 URL: N/A; Mount: SMD/SMT; Operating Temperature Max: + 85 C; Operating Temperature Min: - 25 C; Supplier 1: Mouser; Supplier 1 Part Number: 710-610124249221; Supplier 2: Digi-Key; Supplier 2 Part Number: N/A; Supplier 3: thegioiic; Supplier 3 Part Number: N/A; Value: 3A, 250 V (AC); LCSC Part #: N/A
footprint 610124249221
pins: 1, 2, 3, 4, 5, 6, 7, 8, 9, 10, 11, 12, 13, 14, 15, 16, 17, 18, 19, 20, 21, 22, 23, 24

## 610126249221
designator J?, comment 3A, 250 V (AC)
WR-PHD Socket Header, SMT, pitch 2.54mm, Dual Row, Angled, 26p; Manufacturer Part Number: 610126249221; Manufacturer: Wurth Elektronik; Pin Number: 26; Working Voltage: 250VAC; Withstanding Voltage: 600VAC; Contact Resistance: 20mOhm; ComponentLink1Description: Datasheet; ComponentLink1URL: https://www.we-online.com/catalog/datasheet/610126249221.pdf; Pitch: 2.54mm; Packaging: Tape and Reel; Gender: Socket Header; Rated Current: 3A; Row Number: Dual; Orientation: Angled; Supplier 1 URL: https://www.mouser.vn/ProductDetail/Wurth-Elektronik/610126249221?qs=a9WhcLg8qCwtfqUIV%2FmBjQ%3D%3D; Supplier 2 URL: N/A; Supplier 3 URL: N/A; Mount: SMD/SMT; Operating Temperature Max: + 85 C; Operating Temperature Min: - 25 C; Supplier 1: Mouser; Supplier 1 Part Number: 710-610126249221; Supplier 2: Digi-Key; Supplier 2 Part Number: N/A; Supplier 3: thegioiic; Supplier 3 Part Number: N/A; Value: 3A, 250 V (AC); LCSC Part #: N/A
footprint 610126249221
pins: 1, 2, 3, 4, 5, 6, 7, 8, 9, 10, 11, 12, 13, 14, 15, 16, 17, 18, 19, 20, 21, 22, 23, 24, 25, 26

## 610304243021
designator J?, comment 3A, 250 V (AC)
WR-PHD Socket Header, SMT, pitch 2.54mm, Dual Row, Vertical, 4p; Manufacturer Part Number: 610304243021; Manufacturer: Wurth Elektronik; Pin Number: 4; Working Voltage: 250VAC; Withstanding Voltage: 500VAC; Contact Resistance: 20mOhm; ComponentLink1Description: Datasheet; ComponentLink1URL: https://www.we-online.com/catalog/datasheet/610304243021.pdf; Pitch: 2.54mm; Packaging: Tape and Reel; Gender: Socket Header; Rated Current: 3A; Row Number: Dual; Orientation: Vertical; Supplier 1 URL: N/A; Supplier 2 URL: N/A; Supplier 3 URL: N/A; Mount: SMD/SMT; Operating Temperature Max: + 85 C; Operating Temperature Min: - 25 C; Supplier 1: Mouser; Supplier 1 Part Number: N/A; Supplier 2: Digi-Key; Supplier 2 Part Number: N/A; Supplier 3: thegioiic; Supplier 3 Part Number: N/A; Value: 3A, 250 V (AC); LCSC Part #: N/A
footprint 610304243021
pins: 1, 2, 3, 4

## 610306243021
designator J?, comment 3A, 250 V (AC)
WR-PHD Socket Header, SMT, pitch 2.54mm, Dual Row, Vertical, 6p; Manufacturer Part Number: 610306243021; Manufacturer: Wurth Elektronik; Pin Number: 6; Working Voltage: 250VAC; Withstanding Voltage: 500VAC; Contact Resistance: 20mOhm; ComponentLink1Description: Datasheet; ComponentLink1URL: https://www.we-online.com/catalog/datasheet/610306243021.pdf; Pitch: 2.54mm; Packaging: Tape and Reel; Gender: Socket Header; Rated Current: 3A; Row Number: Dual; Orientation: Vertical; Supplier 1 URL: N/A; Supplier 2 URL: N/A; Supplier 3 URL: N/A; Mount: SMD/SMT; Operating Temperature Max: + 85 C; Operating Temperature Min: - 25 C; Supplier 1: Mouser; Supplier 1 Part Number: N/A; Supplier 2: Digi-Key; Supplier 2 Part Number: N/A; Supplier 3: thegioiic; Supplier 3 Part Number: N/A; Value: 3A, 250 V (AC); LCSC Part #: N/A
footprint 610306243021
pins: 1, 2, 3, 4, 5, 6

## 610308243021
designator J?, comment 3A, 250 V (AC)
WR-PHD Socket Header, SMT, pitch 2.54mm, Dual Row, Vertical, 8p; Manufacturer Part Number: 610308243021; Manufacturer: Wurth Elektronik; Pin Number: 8; Working Voltage: 250VAC; Withstanding Voltage: 500VAC; Contact Resistance: 20mOhm; ComponentLink1Description: Datasheet; ComponentLink1URL: https://www.we-online.com/catalog/datasheet/610308243021.pdf; Pitch: 2.54mm; Packaging: Tape and Reel; Gender: Socket Header; Rated Current: 3A; Row Number: Dual; Orientation: Vertical; Supplier 1 URL: N/A; Supplier 2 URL: N/A; Supplier 3 URL: N/A; Mount: SMD/SMT; Operating Temperature Max: + 85 C; Operating Temperature Min: - 25 C; Supplier 1: Mouser; Supplier 1 Part Number: N/A; Supplier 2: Digi-Key; Supplier 2 Part Number: N/A; Supplier 3: thegioiic; Supplier 3 Part Number: N/A; Value: 3A, 250 V (AC); LCSC Part #: N/A
footprint 610308243021
pins: 1, 2, 3, 4, 5, 6, 7, 8

## 610310243021
designator J?, comment 3A, 250 V (AC)
WR-PHD Socket Header, SMT, pitch 2.54mm, Dual Row, Vertical, 10p; Manufacturer Part Number: 610310243021; Manufacturer: Wurth Elektronik; Pin Number: 10; Working Voltage: 250VAC; Withstanding Voltage: 500VAC; Contact Resistance: 20mOhm; ComponentLink1Description: Datasheet; ComponentLink1URL: https://www.we-online.com/catalog/datasheet/610310243021.pdf; Pitch: 2.54mm; Packaging: Tape and Reel; Gender: Socket Header; Rated Current: 3A; Row Number: Dual; Orientation: Vertical; Supplier 1 URL: N/A; Supplier 2 URL: N/A; Supplier 3 URL: N/A; Mount: SMD/SMT; Operating Temperature Max: + 85 C; Operating Temperature Min: - 25 C; Supplier 1: Mouser; Supplier 1 Part Number: N/A; Supplier 2: Digi-Key; Supplier 2 Part Number: N/A; Supplier 3: thegioiic; Supplier 3 Part Number: N/A; Value: 3A, 250 V (AC); LCSC Part #: N/A
footprint 610310243021
pins: 1, 2, 3, 4, 5, 6, 7, 8, 9, 10

## 610312243021
designator J?, comment 3A, 250 V (AC)
WR-PHD Socket Header, SMT, pitch 2.54mm, Dual Row, Vertical, 12p; Manufacturer Part Number: 610312243021; Manufacturer: Wurth Elektronik; Pin Number: 12; Working Voltage: 250VAC; Withstanding Voltage: 500VAC; Contact Resistance: 20mOhm; ComponentLink1Description: Datasheet; ComponentLink1URL: https://www.we-online.com/catalog/datasheet/610312243021.pdf; Pitch: 2.54mm; Packaging: Tape and Reel; Gender: Socket Header; Rated Current: 3A; Row Number: Dual; Orientation: Vertical; Supplier 1 URL: N/A; Supplier 2 URL: N/A; Supplier 3 URL: N/A; Mount: SMD/SMT; Operating Temperature Max: + 85 C; Operating Temperature Min: - 25 C; Supplier 1: Mouser; Supplier 1 Part Number: N/A; Supplier 2: Digi-Key; Supplier 2 Part Number: N/A; Supplier 3: thegioiic; Supplier 3 Part Number: N/A; Value: 3A, 250 V (AC); LCSC Part #: N/A
footprint 610312243021
pins: 1, 2, 3, 4, 5, 6, 7, 8, 9, 10, 11, 12

## 610316243021
designator J?, comment 3A, 250 V (AC)
WR-PHD Socket Header, SMT, pitch 2.54mm, Dual Row, Vertical, 16p; Manufacturer Part Number: 610316243021; Manufacturer: Wurth Elektronik; Pin Number: 16; Working Voltage: 250VAC; Withstanding Voltage: 500VAC; Contact Resistance: 20mOhm; ComponentLink1Description: Datasheet; ComponentLink1URL: https://www.we-online.com/catalog/datasheet/610316243021.pdf; Pitch: 2.54mm; Packaging: Tape and Reel; Gender: Socket Header; Rated Current: 3A; Row Number: Dual; Orientation: Vertical; Supplier 1 URL: N/A; Supplier 2 URL: N/A; Supplier 3 URL: N/A; Mount: SMD/SMT; Operating Temperature Max: + 85 C; Operating Temperature Min: - 25 C; Supplier 1: Mouser; Supplier 1 Part Number: N/A; Supplier 2: Digi-Key; Supplier 2 Part Number: N/A; Supplier 3: thegioiic; Supplier 3 Part Number: N/A; Value: 3A, 250 V (AC); LCSC Part #: N/A
footprint 610316243021
pins: 1, 2, 3, 4, 5, 6, 7, 8, 9, 10, 11, 12, 13, 14, 15, 16

## 610318243021
designator J?, comment 3A, 250 V (AC)
WR-PHD Socket Header, SMT, pitch 2.54mm, Dual Row, Vertical, 18p; Manufacturer Part Number: 610318243021; Manufacturer: Wurth Elektronik; Pin Number: 18; Working Voltage: 250VAC; Withstanding Voltage: 500VAC; Contact Resistance: 20mOhm; ComponentLink1Description: Datasheet; ComponentLink1URL: https://www.we-online.com/catalog/datasheet/610318243021.pdf; Pitch: 2.54mm; Packaging: Tape and Reel; Gender: Socket Header; Rated Current: 3A; Row Number: Dual; Orientation: Vertical; Supplier 1 URL: N/A; Supplier 2 URL: N/A; Supplier 3 URL: N/A; Mount: SMD/SMT; Operating Temperature Max: + 85 C; Operating Temperature Min: - 25 C; Supplier 1: Mouser; Supplier 1 Part Number: N/A; Supplier 2: Digi-Key; Supplier 2 Part Number: N/A; Supplier 3: thegioiic; Supplier 3 Part Number: N/A; Value: 3A, 250 V (AC); LCSC Part #: N/A
footprint 610318243021
pins: 1, 2, 3, 4, 5, 6, 7, 8, 9, 10, 11, 12, 13, 14, 15, 16, 17, 18

## 610320243021
designator J?, comment 3A, 250 V (AC)
WR-PHD Socket Header, SMT, pitch 2.54mm, Dual Row, Vertical, 20p; Manufacturer Part Number: 610320243021; Manufacturer: Wurth Elektronik; Pin Number: 20; Working Voltage: 250VAC; Withstanding Voltage: 500VAC; Contact Resistance: 20mOhm; ComponentLink1Description: Datasheet; ComponentLink1URL: https://www.we-online.com/catalog/datasheet/610320243021.pdf; Pitch: 2.54mm; Packaging: Tape and Reel; Gender: Socket Header; Rated Current: 3A; Row Number: Dual; Orientation: Vertical; Supplier 1 URL: N/A; Supplier 2 URL: N/A; Supplier 3 URL: N/A; Mount: SMD/SMT; Operating Temperature Max: + 85 C; Operating Temperature Min: - 25 C; Supplier 1: Mouser; Supplier 1 Part Number: N/A; Supplier 2: Digi-Key; Supplier 2 Part Number: N/A; Supplier 3: thegioiic; Supplier 3 Part Number: N/A; Value: 3A, 250 V (AC); LCSC Part #: N/A
footprint 610320243021
pins: 1, 2, 3, 4, 5, 6, 7, 8, 9, 10, 11, 12, 13, 14, 15, 16, 17, 18, 19, 20

## 613002143121
designator J?, comment 3A, 250 V (AC)
WR-PHD Socket Header, THT, pitch 2.54mm, Single Row, Angled, 2p; Manufacturer Part Number: 613002143121; Manufacturer: Wurth Elektronik; Pin Number: 2; Working Voltage: 250VAC; Withstanding Voltage: 500VAC; Contact Resistance: 20mOhm; ComponentLink1Description: Datasheet; ComponentLink1URL: https://www.we-online.com/catalog/datasheet/613002143121.pdf; Pitch: 2.54mm; Packaging: Tray; Gender: Socket Header; Rated Current: 3A; Row Number: Single; Orientation: Angled; Supplier 1 URL: N/A; Supplier 2 URL: N/A; Supplier 3 URL: https://www.thegioiic.com/hang-rao-cai-don-2-54mm-2-chan-1-hang-chan-cong-xuyen-lo; Mount: THT; Operating Temperature Max: + 85 C; Operating Temperature Min: - 25 C; Supplier 1: Mouser; Supplier 1 Part Number: N/A; Supplier 2: Digi-Key; Supplier 2 Part Number: N/A; Supplier 3: thegioiic; Supplier 3 Part Number: N/A; Value: 3A, 250 V (AC); LCSC Part #: N/A
footprint 613002143121
pins: 1, 2

## 613003143121
designator J?, comment 3A, 250 V (AC)
WR-PHD Socket Header, THT, pitch 2.54mm, Single Row, Angled, 3p; Manufacturer Part Number: 613003143121; Manufacturer: Wurth Elektronik; Pin Number: 3; Working Voltage: 250VAC; Withstanding Voltage: 500VAC; Contact Resistance: 20mOhm; ComponentLink1Description: Datasheet; ComponentLink1URL: https://www.we-online.com/catalog/datasheet/613003143121.pdf; Pitch: 2.54mm; Packaging: Tray; Gender: Socket Header; Rated Current: 3A; Row Number: Single; Orientation: Angled; Supplier 1 URL: N/A; Supplier 2 URL: N/A; Supplier 3 URL: https://www.thegioiic.com/hang-rao-cai-don-2-54mm-3-chan-1-hang-chan-cong-xuyen-lo; Mount: THT; Operating Temperature Max: + 85 C; Operating Temperature Min: - 25 C; Supplier 1: Mouser; Supplier 1 Part Number: N/A; Supplier 2: Digi-Key; Supplier 2 Part Number: N/A; Supplier 3: thegioiic; Supplier 3 Part Number: N/A; Value: 3A, 250 V (AC); LCSC Part #: N/A
footprint 613003143121
pins: 1, 2, 3

## 613004143121
designator J?, comment 3A, 250 V (AC)
WR-PHD Socket Header, THT, pitch 2.54mm, Single Row, Angled, 4p; Manufacturer Part Number: 613004143121; Manufacturer: Wurth Elektronik; Pin Number: 4; Working Voltage: 250VAC; Withstanding Voltage: 500VAC; Contact Resistance: 20mOhm; ComponentLink1Description: Datasheet; ComponentLink1URL: https://www.we-online.com/catalog/datasheet/613004143121.pdf; Pitch: 2.54mm; Packaging: Tray; Gender: Socket Header; Rated Current: 3A; Row Number: Single; Orientation: Angled; Supplier 1 URL: N/A; Supplier 2 URL: N/A; Supplier 3 URL: https://www.thegioiic.com/hang-rao-cai-don-2-54mm-4-chan-1-hang-chan-cong-xuyen-lo; Mount: THT; Operating Temperature Max: + 85 C; Operating Temperature Min: - 25 C; Supplier 1: Mouser; Supplier 1 Part Number: N/A; Supplier 2: Digi-Key; Supplier 2 Part Number: N/A; Supplier 3: thegioiic; Supplier 3 Part Number: N/A; Value: 3A, 250 V (AC); LCSC Part #: N/A
footprint 613004143121
pins: 1, 2, 3, 4

## 613004216921
designator J?, comment 3A, 250 V (AC)
WR-PHD Socket Header, THT, pitch 2.54mm, Dual Row, Vertical, 4p; Manufacturer Part Number: 613004216921; Manufacturer: Wurth Elektronik; Pin Number: 4; Working Voltage: 250VAC; Withstanding Voltage: 500VAC; Contact Resistance: 20mOhm; ComponentLink1Description: Datasheet; ComponentLink1URL: https://www.we-online.com/catalog/datasheet/613004216921.pdf; Pitch: 2.54mm; Packaging: Tube; Gender: Socket Header; Rated Current: 3A; Row Number: Dual; Orientation: Vertical; Supplier 1 URL: N/A; Supplier 2 URL: N/A; Supplier 3 URL: N/A; Mount: THT; Operating Temperature Max: + 85 C; Operating Temperature Min: - 25 C; Supplier 1: Mouser; Supplier 1 Part Number: N/A; Supplier 2: Digi-Key; Supplier 2 Part Number: N/A; Supplier 3: thegioiic; Supplier 3 Part Number: N/A; Value: 3A, 250 V (AC); LCSC Part #: N/A
footprint 613004216921
pins: 1, 2, 3, 4

## 613004243121
designator J?, comment 3A, 250 V (AC)
WR-PHD Socket Header, THT, pitch 2.54mm, Dual Row, Angled, 4p; Manufacturer Part Number: 613004243121; Manufacturer: Wurth Elektronik; Pin Number: 4; Working Voltage: 250VAC; Withstanding Voltage: 500VAC; Contact Resistance: 20mOhm; ComponentLink1Description: Datasheet; ComponentLink1URL: https://www.we-online.com/catalog/datasheet/613004243121.pdf; Pitch: 2.54mm; Packaging: Tray; Gender: Socket Header; Rated Current: 3A; Row Number: Dual; Orientation: Angled; Supplier 1 URL: https://www.mouser.vn/ProductDetail/Wurth-Elektronik/613004243121?qs=0lSvoLzn4L%2FwAecNHURZRA%3D%3D; Supplier 2 URL: N/A; Supplier 3 URL: https://www.thegioiic.com/hang-rao-cai-doi-2-54mm-28-chan-2-hang-smd; Mount: THT; Operating Temperature Max: + 85 C; Operating Temperature Min: - 25 C; Supplier 1: Mouser; Supplier 1 Part Number: 710-613004243121; Supplier 2: Digi-Key; Supplier 2 Part Number: N/A; Supplier 3: thegioiic; Supplier 3 Part Number: N/A; Value: 3A, 250 V (AC); LCSC Part #: N/A
footprint 613004243121
pins: 1, 2, 3, 4

## 613005143121
designator J?, comment 3A, 250 V (AC)
WR-PHD Socket Header, THT, pitch 2.54mm, Single Row, Angled, 5p; Manufacturer Part Number: 613005143121; Manufacturer: Wurth Elektronik; Pin Number: 5; Working Voltage: 250VAC; Withstanding Voltage: 500VAC; Contact Resistance: 20mOhm; ComponentLink1Description: Datasheet; ComponentLink1URL: https://www.we-online.com/catalog/datasheet/613005143121.pdf; Pitch: 2.54mm; Packaging: Tray; Gender: Socket Header; Rated Current: 3A; Row Number: Single; Orientation: Angled; Supplier 1 URL: N/A; Supplier 2 URL: N/A; Supplier 3 URL: https://www.thegioiic.com/hang-rao-cai-don-2-54mm-5-chan-1-hang-chan-cong-xuyen-lo; Mount: THT; Operating Temperature Max: + 85 C; Operating Temperature Min: - 25 C; Supplier 1: Mouser; Supplier 1 Part Number: N/A; Supplier 2: Digi-Key; Supplier 2 Part Number: N/A; Supplier 3: thegioiic; Supplier 3 Part Number: N/A; Value: 3A, 250 V (AC); LCSC Part #: N/A
footprint 613005143121
pins: 1, 2, 3, 4, 5